# Altium footprint library ZXTN4004KTC.PcbLib: 1 footprints
Each footprint in its own frame and in the unit in brackets; x right, y up, seen from the top. Pads: shape width x height; smd on the part's side, far side on the other; paste and mask are expansions set on the pad; w line width, h text height; cw(c..) or ccw(c..) is an arc to the next point about the centre after c.
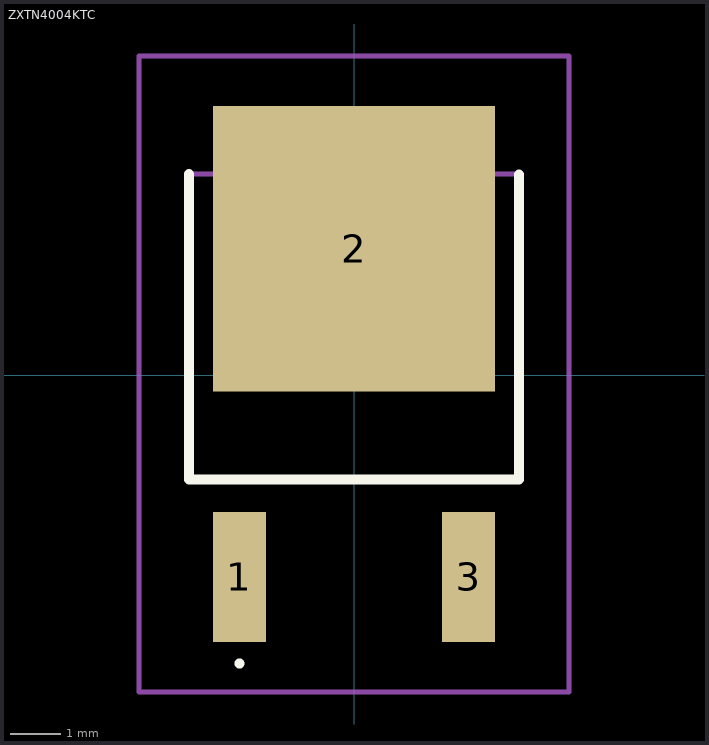
[diagram p0: the footprint, top view; thin cyan lines are the x and y axes]

## ZXTN4004KTC [mm]
pads (3):
  rect 1.06x2.6 smd: 1(-2.286,-4.022) 3(2.286,-4.022)
  rect 5.632x5.7 smd: 2(0,2.527)
Top Overlay:
  lines w0.1: -2.286,-5.8 cw(c-2.286,-5.75) -2.286,-5.7 ; -2.286,-5.8 -2.286,-5.8 ; -2.286,-5.8 ccw(c-2.286,-5.75) -2.286,-5.7 ; -2.286,-5.7 -2.286,-5.7
  lines w0.2: -3.29,4.022 -3.29,-2.077 3.29,-2.077 3.29,4.005
Mechanical 15:
  lines w0.1: -3.29,-2.077 3.29,-2.077 3.29,4.022 -3.29,4.022 -3.29,-2.077
Mechanical 20:
  lines w0.1: -4.29,-6.322 4.29,-6.322 4.29,6.377 -4.29,6.377 -4.29,-6.322